# Altium footprint library NRVTS12100MFST1G.PcbLib: 1 footprints
Each footprint in its own frame and in the unit in brackets; x right, y up, seen from the top. Pads: shape width x height; smd on the part's side, far side on the other; paste and mask are expansions set on the pad; w line width, h text height; cw(c..) or ccw(c..) is an arc to the next point about the centre after c.
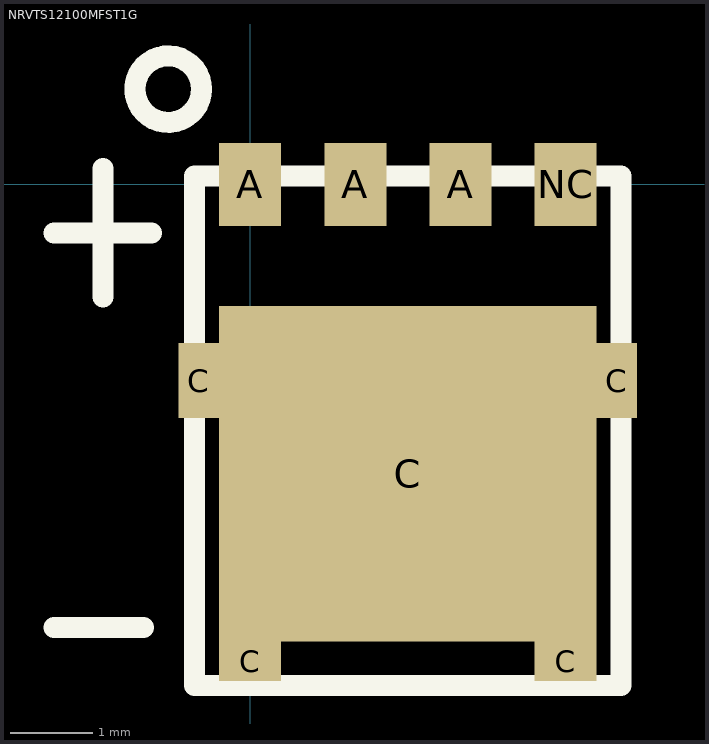
[diagram p0: the footprint, top view; thin cyan lines are the x and y axes]

## NRVTS12100MFST1G [mm] "DFN5 (8-SOFL)"
pads (9):
  rect 0.75x1 smd: A(0,0) A(1.27,0) A(2.54,0) NC(3.81,0)
  rect 0.495x0.905 smd: C(-0.62,-2.37) C(4.425,-2.37)
  rect 0.75x0.475 smd: C(0,-5.758) C(3.81,-5.758)
  rect 4.56x4.055 smd: C(1.905,-3.495)
Top Overlay:
  circle w0.254: c-0.99,1.15 r0.402
  lines w0.254: -2.37,-5.35 -1.29,-5.35 ; -2.37,-0.59 -1.19,-0.59 ; -1.78,-1.36 -1.78,0.19 ; -0.67,-6.05 -0.67,0.1 4.48,0.1 4.48,-6.05 -0.67,-6.05
3D body "User Library-DFN5x6_SO8FL.STEP": height 1.13, standoff 0, extent -0.67,-6.05 4.48,0.1